# Altium schematic symbol library Connector.SchLib: 14 symbols
Pins are listed as number, name and electrical type; pins without a type are passive.

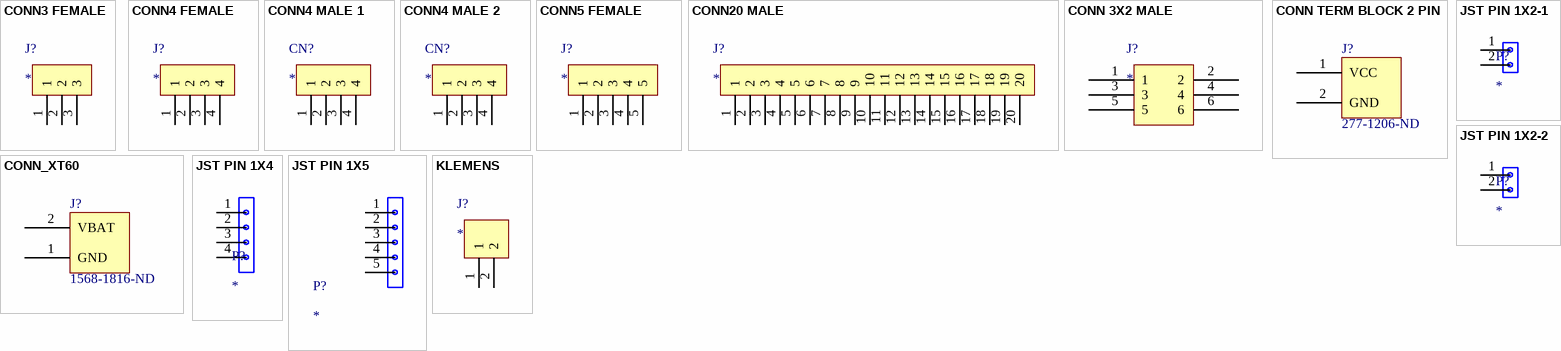
[diagram p0: symbols CONN3 FEMALE to KLEMENS]

## CONN3 FEMALE
designator J?
3 PIN 2.54MM
footprint CONN3 FEMALE (3 PIN 2.54MM)
pins: 1, 2, 3

## CONN4 FEMALE
designator J?
4 PIN 2.54MM
footprint CONN4 FEMALE (4 PIN 2.54MM)
pins: 1, 2, 3, 4

## CONN4 MALE 1
designator CN?
4 PIN 2.54MM
footprint CONN4 MALE 1 (4 PIN 2.54MM)
pins: 1, 2, 3, 4

## CONN4 MALE 2
designator CN?
4 PIN 2.54MM; Supplier 1: Digi-Key; Supplier 2: Farnell; Supplier 3: Mouser; Supplier 4: Arrow Electronics; Supplier Part Number 1: WM8074-ND; Supplier Part Number 2: 3107372; Supplier Part Number 3: 538-90120-0124; Supplier Part Number 4: 90120-0124
footprint CONN4 MALE 2 (4 PIN 2.54MM)
pins: 1, 2, 3, 4

## CONN5 FEMALE
designator J?
4 PIN 2.54MM
footprint CONN5 FEMALE (5 PIN 2.54MM)
pins: 1, 2, 3, 4, 5

## CONN20 MALE
designator J?
20 PIN 2.54MM
footprint CONN20 MALE (3 PIN 2.54MM)
pins: 1, 2, 3, 4, 5, 6, 7, 8, 9, 10, 11, 12, 13, 14, 15, 16, 17, 18, 19, 20

## CONN 3X2 MALE
designator J?
3X2 PIN 2.54MM
footprint CONN 3X2 MALE (3X2 PIN 2.54MM)
pins: 1, 2, 3, 4, 5, 6

## CONN TERM BLOCK 2 PIN
designator J?, comment Supplier Part Number 1: 277-1206-ND  (hidden comment: CONN_TERM BLOCK_HDR_2POS_VERT_3.81MM)
2 Position Terminal Block Header, Male Pins, Shrouded (4 Side) 0.150" (3.81mm) 90°, Right Angle - Through Hole; Manufacturer: Phoenix Contact; Manufacturer Part Number: 1803277; Max Current Rating: 8A; Number of Contacts: 2; Voltage Rating: 160V; Number of Levels: 1; Voltage: 300V; Connector Type: Plug,PCB,Terminal Block; Voltage Rating (DC): 640mV; Approvals: UL,CSA; Supplier 1: Digi-Key; RoHS: Yes; Category: Terminal Blocks; Stock 1: 18415; Pricing 1: 1=0,91000, 10=0,87400, 50=0,83600, 100=0,81320, 250=0,76000, 500=0,69920, 1000=0,64600, 2500=0,61560, 5000=0,58520 (USD); Mount: Through Hole; Contact Plating: Tin; Housing Color: Green; Housing Material: Polybutylene; Contact Material: Tin; Color: Green; Weight: 4oz; Number of Rows: 1; Packaging: Bulk; Termination: Solder; Orientation: Right Angle; Gender: Male; Package Quantity: 50; Number of Poles: 2; Current Rating: 8A; Number of Positions Per Level: 2; Current: 8A; Number of Positions: 2; Series: MC; Voltage Rating (AC): 160V; Contact Gender: Male; Length: 9.01mm; Width: 10.65mm; Height: 9.2mm; Pitch: 3.81mm; Depth: 9.2mm; Lead Free: Lead Free; RoHS Compliant: Yes; REACH SVHC: Unknown; Flammability Rating: UL94 V-0; ComponentLink1URL: https://datasheet.ciiva.com/16096/1803277-16096845.pdf?src-supplier=Onlinecomponents.com; ComponentLink1Description: https://datasheet.ciiva.com/16096/1803277-16096845.pdf?src-supplier=Onlinecomponents.com; ComponentLink2URL: https://datasheet.ciiva.com/26840/getdatasheetpartid-233794-26840495.pdf?src-supplier=Verical; ComponentLink2Description: https://datasheet.ciiva.com/26840/getdatasheetpartid-233794-26840495.pdf?src-supplier=Verical; ComponentLink3URL: https://datasheet.ciiva.com/11746/0900766b80029ea6-11746612.pdf?src-supplier=RSComponents; ComponentLink3Description: https://datasheet.ciiva.com/11746/0900766b80029ea6-11746612.pdf?src-supplier=RSComponents; ComponentLink4URL: https://datasheet.ciiva.com/795/1803277-795413.pdf?src-supplier=Digi-Key; ComponentLink4Description: https://datasheet.ciiva.com/795/1803277-795413.pdf?src-supplier=Digi-Key; ComponentLink5URL: https://datasheet.ciiva.com/23596/1581611-23596276.pdf?src-supplier=Newark; ComponentLink5Description: https://datasheet.ciiva.com/23596/1581611-23596276.pdf?src-supplier=Newark; ComponentLink6URL: https://datasheet.ciiva.com/29212/740533-da-01-de-leiterplattenstecker-mc-1-5-2-g-3-81-29212066.pdf?src-supplier=Conrad; ComponentLink6Description: https://datasheet.ciiva.com/29212/740533-da-01-de-leiterplattenstecker-mc-1-5-2-g-3-81-29212066.pdf?src-supplier=Conrad
footprint CONN TERM BLOCK 2 PIN
pins: 1 VCC, 2 GND

## CONN_XT60
designator J?  Supplier Part Number 1: 1568-1816-ND  (hidden comment: CONN_XT60)
XT60 Connectors Male/female Pair; Manufacturer: SparkFun; Manufacturer Part Number: PRT-10474; Supplier 1: Digi-Key; RoHS: No; Stock 1: 2196; Pricing 1: 1=1,50000 (USD); ComponentLink1URL: https://cdn.sparkfun.com/datasheets/Prototyping/xt60.pdf?src-supplier=Digi-Key; ComponentLink1Description: https://cdn.sparkfun.com/datasheets/Prototyping/xt60.pdf?src-supplier=Digi-Key
footprint XT60_CONN
pins: 1 GND, 2 VBAT

## JST PIN 1X2-1
designator P?
1.5mm
footprint JST 1.5 MM 2 PİN
pins: 1 6, 2 7

## JST PIN 1X2-2
designator P?
2.54mm
footprint JST 2.54 mm 2 PİN
pins: 1 6, 2 7

## JST PIN 1X4
designator P?
2.54mm
footprint JST 2.54 mm 4 PİN
pins: 1 6, 2 6, 3 6, 4 6

## JST PIN 1X5
designator P?
2.54MM
footprint JST 2.54 MM 5 PİN
pins: 1, 2, 3, 4, 5

## KLEMENS
designator J?
2 PIN 3.5MM
footprint KLEMENS (2 PIN)
pins: 1, 2